# EAGLE library part MIC24045-* (library Microchip)
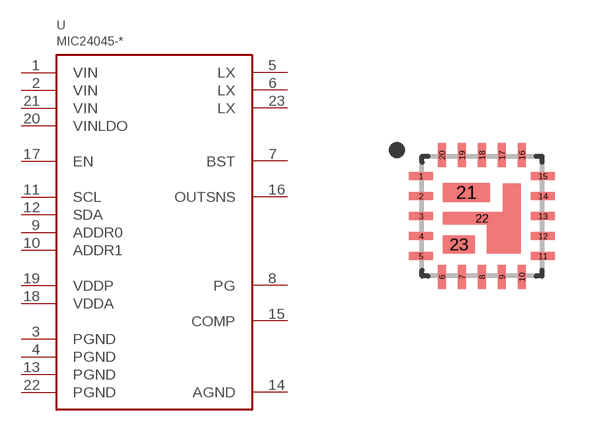
[diagram p24: symbol with the pads of FQFN20; footprint FQFN20]

Designator prefix U

## MIC24045-2Z, MIC24045-DI, MIC24045-EI, MIC24045-JF, MIC24045-KD  [FQFN20]
1  VIN
2  VIN
3  PGND
4  PGND
5  LX
6  LX
7  BST
8  PG
9  ADDR0
10  ADDR1
11  SCL
12  SDA
13  PGND
14  AGND
15  COMP
16  OUTSNS
17  EN
18  VDDA
19  VDDP
20  VINLDO
21  VIN
22  PGND
23  LX

## Footprint FQFN20 (pad centres in mm)
smd 0.6 x 0.2: 1 -1.525,1; 2 -1.525,0.5; 3 -1.525,0; 4 -1.525,-0.5; 5 -1.525,-1; 11 1.525,-1; 12 1.525,-0.5; 13 1.525,0; 14 1.525,0.5; 15 1.525,1
smd 0.2 x 0.6: 6 -1,-1.525; 7 -0.5,-1.525; 8 0,-1.525; 9 0.5,-1.525; 10 1,-1.525; 16 1,1.525; 17 0.5,1.525; 18 0,1.525; 19 -0.5,1.525; 20 -1,1.525
smd 1.17 x 0.47: 21 -0.39,0.595
smd 1.95 x 0.31: 22 0,-0.055
smd 0.79 x 0.45: 23 -0.58,-0.701